# EAGLE library part A3PN125 (library actel)
Actel A3PN125-ZVQG100 edit this description Auto generated by make-symbol-device-package-bsdl.ulp Rev. 44 Source: A3PN125-ZVQG100.txt
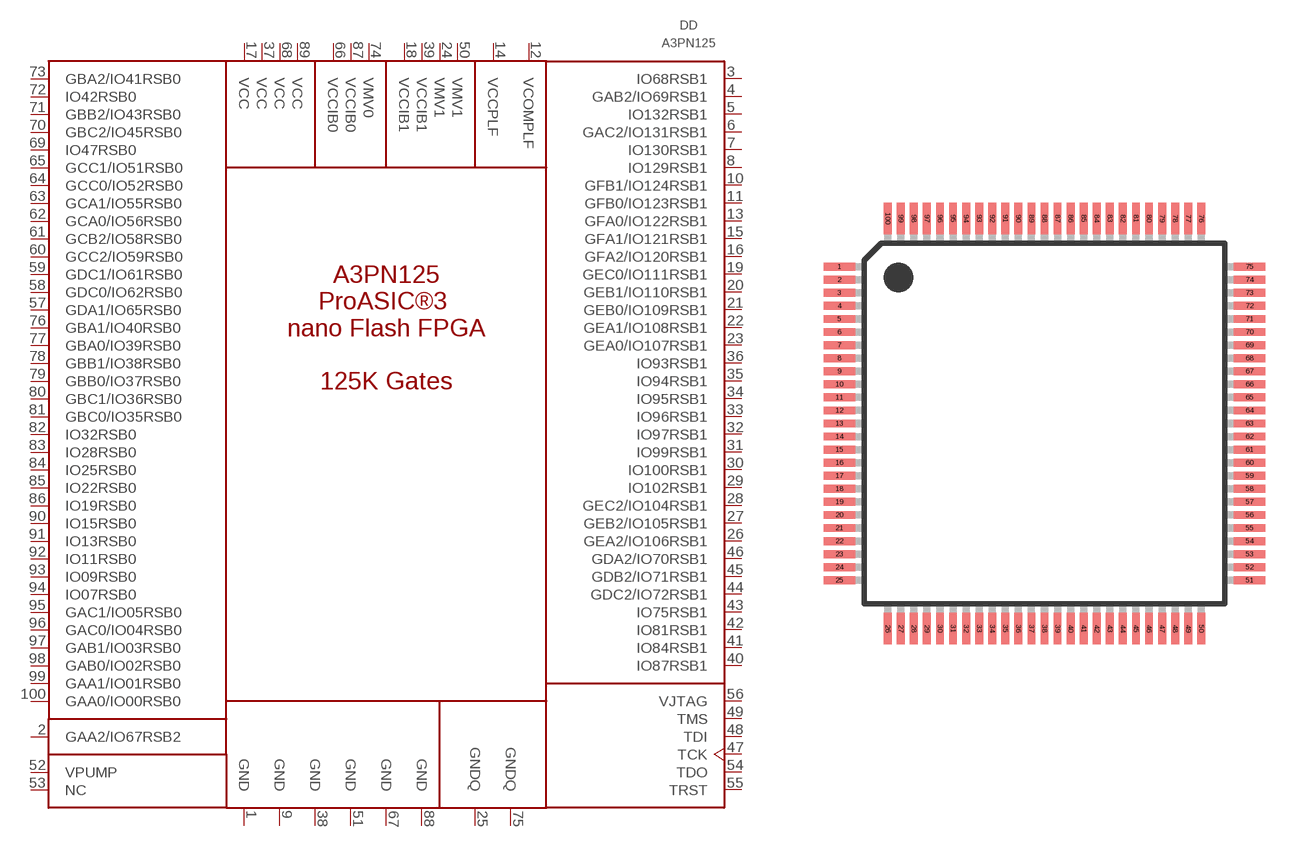
[diagram p0: symbol with the pads of VQ100; footprint VQ100]

Designator prefix DD

## A3PN125ZVQG100  [VQ100]
1  GND  pwr
2  GAA2/IO67RSB2
3  IO68RSB1
4  GAB2/IO69RSB1
5  IO132RSB1
6  GAC2/IO131RSB1
7  IO130RSB1
8  IO129RSB1
9  GND  pwr
10  GFB1/IO124RSB1
11  GFB0/IO123RSB1
12  VCOMPLF  pas
13  GFA0/IO122RSB1
14  VCCPLF  pwr
15  GFA1/IO121RSB1
16  GFA2/IO120RSB1
17  VCC  pwr
18  VCCIB1  pwr
19  GEC0/IO111RSB1
20  GEB1/IO110RSB1
21  GEB0/IO109RSB1
22  GEA1/IO108RSB1
23  GEA0/IO107RSB1
24  VMV1  pas
25  GNDQ  pwr
26  GEA2/IO106RSB1
27  GEB2/IO105RSB1
28  GEC2/IO104RSB1
29  IO102RSB1
30  IO100RSB1
31  IO99RSB1
32  IO97RSB1
33  IO96RSB1
34  IO95RSB1
35  IO94RSB1
36  IO93RSB1
37  VCC  pwr
38  GND  pwr
39  VCCIB1  pwr
40  IO87RSB1
41  IO84RSB1
42  IO81RSB1
43  IO75RSB1
44  GDC2/IO72RSB1
45  GDB2/IO71RSB1
46  GDA2/IO70RSB1
47  TCK  in
48  TDI  in
49  TMS
50  VMV1  pas
51  GND  pwr
52  VPUMP  pwr
53  NC  nc
54  TDO  out
55  TRST  in
56  VJTAG  in
57  GDA1/IO65RSB0
58  GDC0/IO62RSB0
59  GDC1/IO61RSB0
60  GCC2/IO59RSB0
61  GCB2/IO58RSB0
62  GCA0/IO56RSB0
63  GCA1/IO55RSB0
64  GCC0/IO52RSB0
65  GCC1/IO51RSB0
66  VCCIB0  pwr
67  GND  pwr
68  VCC  pwr
69  IO47RSB0
70  GBC2/IO45RSB0
71  GBB2/IO43RSB0
72  IO42RSB0
73  GBA2/IO41RSB0
74  VMV0  pas
75  GNDQ  pwr
76  GBA1/IO40RSB0
77  GBA0/IO39RSB0
78  GBB1/IO38RSB0
79  GBB0/IO37RSB0
80  GBC1/IO36RSB0
81  GBC0/IO35RSB0
82  IO32RSB0
83  IO28RSB0
84  IO25RSB0
85  IO22RSB0
86  IO19RSB0
87  VCCIB0  pwr
88  GND  pwr
89  VCC  pwr
90  IO15RSB0
91  IO13RSB0
92  IO11RSB0
93  IO09RSB0
94  IO07RSB0
95  GAC1/IO05RSB0
96  GAC0/IO04RSB0
97  GAB1/IO03RSB0
98  GAB0/IO02RSB0
99  GAA1/IO01RSB0
100  GAA0/IO00RSB0

## Footprint VQ100 (pad centres in mm)
VQ100 Auto generated by make-symbol-device-package-bsdl.ulp Rev. 26
smd 1.2 x 0.3: 1 -7.85,6; 2 -7.85,5.5; 3 -7.85,5; 4 -7.85,4.5; 5 -7.85,4; 6 -7.85,3.5; 7 -7.85,3; 8 -7.85,2.5; 9 -7.85,2; 10 -7.85,1.5; 11 -7.85,1; 12 -7.85,0.5; 13 -7.85,0; 14 -7.85,-0.5; 15 -7.85,-1; 16 -7.85,-1.5; 17 -7.85,-2; 18 -7.85,-2.5; 19 -7.85,-3; 20 -7.85,-3.5; 21 -7.85,-4; 22 -7.85,-4.5; 23 -7.85,-5; 24 -7.85,-5.5; 25 -7.85,-6; 51 7.85,-6; 52 7.85,-5.5; 53 7.85,-5; 54 7.85,-4.5; 55 7.85,-4; 56 7.85,-3.5; 57 7.85,-3; 58 7.85,-2.5; 59 7.85,-2; 60 7.85,-1.5; 61 7.85,-1; 62 7.85,-0.5; 63 7.85,0; 64 7.85,0.5; 65 7.85,1; 66 7.85,1.5; 67 7.85,2; 68 7.85,2.5; 69 7.85,3; 70 7.85,3.5; 71 7.85,4; 72 7.85,4.5; 73 7.85,5; 74 7.85,5.5; 75 7.85,6
smd 0.3 x 1.2: 26 -6,-7.85; 27 -5.5,-7.85; 28 -5,-7.85; 29 -4.5,-7.85; 30 -4,-7.85; 31 -3.5,-7.85; 32 -3,-7.85; 33 -2.5,-7.85; 34 -2,-7.85; 35 -1.5,-7.85; 36 -1,-7.85; 37 -0.5,-7.85; 38 0,-7.85; 39 0.5,-7.85; 40 1,-7.85; 41 1.5,-7.85; 42 2,-7.85; 43 2.5,-7.85; 44 3,-7.85; 45 3.5,-7.85; 46 4,-7.85; 47 4.5,-7.85; 48 5,-7.85; 49 5.5,-7.85; 50 6,-7.85; 76 6,7.85; 77 5.5,7.85; 78 5,7.85; 79 4.5,7.85; 80 4,7.85; 81 3.5,7.85; 82 3,7.85; 83 2.5,7.85; 84 2,7.85; 85 1.5,7.85; 86 1,7.85; 87 0.5,7.85; 88 0,7.85; 89 -0.5,7.85; 90 -1,7.85; 91 -1.5,7.85; 92 -2,7.85; 93 -2.5,7.85; 94 -3,7.85; 95 -3.5,7.85; 96 -4,7.85; 97 -4.5,7.85; 98 -5,7.85; 99 -5.5,7.85; 100 -6,7.85